# Altium schematic symbol library 2019-10-24_23-28-57.SchLib: 2 symbols
Pins are listed as number, name and electrical type; pins without a type are passive.

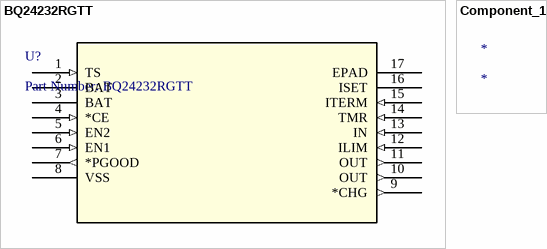
[diagram p0: symbols BQ24232RGTT to Component_1]

## BQ24232RGTT
designator U?, comment Part Number: BQ24232RGTT
No Description Available; Manufacturer: Texas Instruments; Built_By: EMA_UL_Team; Manufacturer_Part_Number: BQ24232RGTT; Vendor: Texas Instruments; Copyright: Copyright (C) 2018 Accelerated Designs. All rights reserved; RefDes: RefDes; Type: DEV; Value: Value
footprint RGT16_1P7X1P7
pins: 1 TS (in), 2 BAT, 3 BAT, 4 *CE (in), 5 EN2 (in), 6 EN1 (in), 7 *PGOOD (out), 8 VSS (power), 9 *CHG (out), 10 OUT (out), 11 OUT (out), 12 ILIM (in), 13 IN (in), 14 TMR (in), 15 ITERM (in), 16 ISET, 17 EPAD (power)

## Component_1
designator *